# Altium footprint library LEDs.PcbLib: 8 footprints
Each footprint in its own frame and in the unit in brackets; x right, y up, seen from the top. Pads: shape width x height; smd on the part's side, far side on the other; paste and mask are expansions set on the pad; w line width, h text height; cw(c..) or ccw(c..) is an arc to the next point about the centre after c.
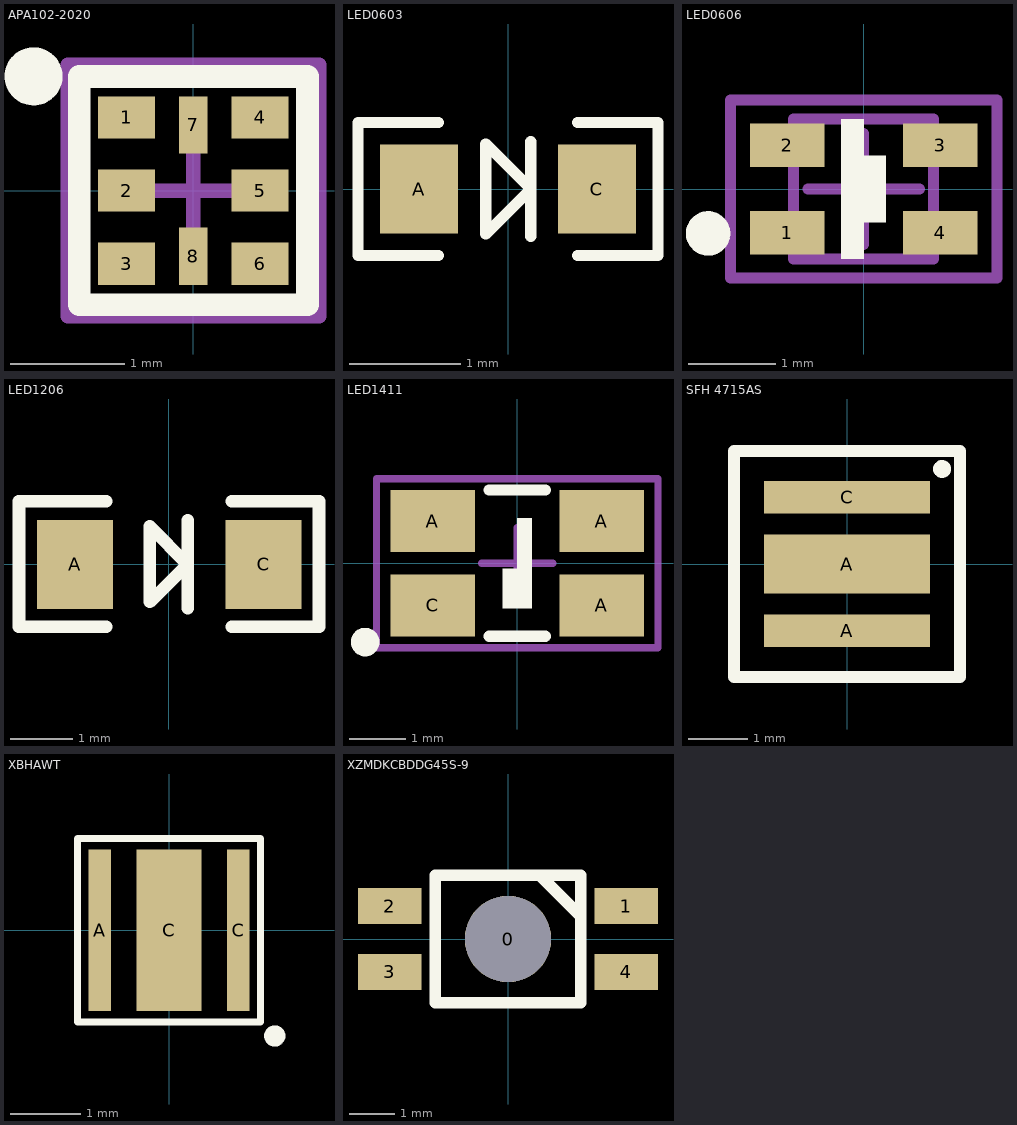
[diagram p0: the footprints below, top view; thin cyan lines are the x and y axes]

## APA102-2020 [mm] "APA102-2020"
height 0.35
pads (8):
  rect 0.5x0.37 smd: 1(-0.585,0.64) 2(-0.585,0) 3(-0.585,-0.64) 4(0.585,0.64) 5(0.585,0) 6(0.585,-0.64)
  rect 0.25x0.5 smd: 7(0,0.575) 8(0,-0.575)
Top Overlay:
  circle w0.254: c-1.4,1 r0.127
  lines w0.2: -1,-1 1,-1 1,1 -1,1 -1,-1
Mechanical 2:
  lines w0.127: -0.635,0 0.635,0 ; 0,-0.635 0,0.635 ; -1.1,-1.1 -1.1,1.1 1.1,1.1 1.1,-1.1 -1.1,-1.1
3D body "APA102 2020 LED.step": height 0.9, standoff -0.01, extent -1,-1 1,1

## LED0603 [mm]
pads (2):
  rect 0.7x0.8 smd: A(-0.8,0) C(0.8,0)
Top Overlay:
  lines w0.1: -0.625,-0.6 -1.35,-0.6 -1.35,0.6 -0.625,0.6 ; -0.2,-0.405 0.205,0 -0.2,0.405 ; -0.2,-0.4 -0.2,0.4 ; 0.205,-0.425 0.205,0.425 ; 0.625,-0.6 1.35,-0.6 1.35,0.6 0.625,0.6
3D body "LED 0603 APT1608 WHITE.STEP": height 0.75, standoff 0, extent -0.8,-0.4 0.8,0.4

## LED0606 [mm] "LED, RGB (common anode), 0606 chip package"
height 0.35
pads (4):
  rect 0.85x0.5 smd: 1(-0.875,-0.5) 2(-0.875,0.5) 3(0.875,0.5) 4(0.875,-0.5)
Top Overlay:
  circle w0.254: c-1.778,-0.508 r0.127
  region: -0.254,0.8 -0.254,-0.8 0,-0.8 0,-0.381 0.254,-0.381 0.254,0.381 0,0.381 0,0.8
Mechanical 2:
  lines w0.127: -0.635,0 0.635,0 ; 0,-0.635 0,0.635 ; -1.524,-1.016 -1.524,1.016 1.524,1.016 1.524,-1.016 -1.524,-1.016
Mechanical 3:
  lines w0.127: -0.8,-0.8 -0.8,0.8 0.8,0.8 0.8,-0.8 -0.8,-0.8
3D body "Kingbright_APTF1616.STEP": height 0.71, standoff 0.01, extent -0.8,-0.8 0.8,0.8

## LED1206 [mil]
pads (2):
  rect 48x56 smd: A(-59.06,0) C(60,0)
Top Overlay:
  lines w8: -39.37,-39.37 -94.49,-39.37 -94.49,40 -39.37,40 ; 12,-27.56 12,0 ; 12,28 12,0 ; 40,-39.37 95,-39.37 95,40 40,40 ; 12,0 -11.81,24 -11.81,-23.62 12,0
3D body "Surface Mount Chip LED 3.2x1.6mm.stp": height 43.31, standoff -0.39, extent -62.99,-31.5 62.99,31.49

## LED1411 [mm] "LED, 1411 chip package"
height 0.35
pads (4):
  rect 1.5x1.1 smd: A(-1.5,0.75) A(1.5,-0.75) A(1.5,0.75) C(-1.5,-0.75)
Top Overlay:
  circle w0.254: c-2.7,-1.4 r0.127
  region: 0.254,0.8 0.254,-0.8 0,-0.8 -0.254,-0.8 -0.254,-0.1 0,-0.1 0,0.8
  lines w0.203: -0.5,-1.3 0.5,-1.3 ; -0.5,1.3 0.5,1.3
Mechanical 2:
  lines w0.127: -0.635,0 0.635,0 ; 0,-0.635 0,0.635 ; -2.5,-1.5 -2.5,1.5 2.5,1.5 2.5,-1.5 -2.5,-1.5
3D body "XZxx45W-6.step": height 3.2, standoff 0, extent -1.75,-1.4 1.75,1.4

## SFH 4715AS [mm]
pads (3):
  rect 2.8x0.55 smd: A(0,-1.125) C(0,1.125)
  rect 2.8x1 smd: A(0,0)
Top Overlay:
  circle w0.2: c1.6,1.6 r0.05
  lines w0.2: -1.9,-1.9 1.9,-1.9 1.9,1.9 -1.9,1.9 -1.9,-1.9
3D body "SFH_4715AS_110615_geometry.STEP": height 2.4, standoff 0, extent -1.925,-1.925 1.925,1.925

## XBHAWT [mm]
pads (3):
  rect 0.325x2.29 smd: A(-0.982,0) C(0.982,0)
  rect 0.92x2.29 smd: C(0,0)
Top Overlay:
  circle w0.2: c1.5,-1.5 r0.05
  lines w0.1: -1.3,-1.3 -1.3,1.3 1.3,1.3 1.3,-1.3 -1.3,-1.3
3D body "CREE, XLamp XB-H.stp": height 2.28, standoff 0, extent -1.225,-1.225 1.225,1.225

## XZMDKCBDDG45S-9 [mm]
pads (5):
  round 1.9 hole 1.9 paste+0 mask+0: 0(0,0)
  rect 1.4x0.8 smd: 1(2.6,0.725) 2(-2.6,0.725) 3(-2.6,-0.725) 4(2.6,-0.725)
Top Overlay:
  lines w0.254: 0.5,1.4 0.7,1.4 1.6,0.5 ; -1.6,-1.4 1.6,-1.4 1.6,1.4 -1.6,1.4 -1.6,-1.4
3D body "XZxxxxxx45S-9.step": height 1.89, standoff -0.01, extent -2.6,-1.4 2.6,1.4